# Altium footprint library CAPC1608X90L.PcbLib: 1 footprints
Each footprint in its own frame and in the unit in brackets; x right, y up, seen from the top. Pads: shape width x height; smd on the part's side, far side on the other; paste and mask are expansions set on the pad; w line width, h text height; cw(c..) or ccw(c..) is an arc to the next point about the centre after c.
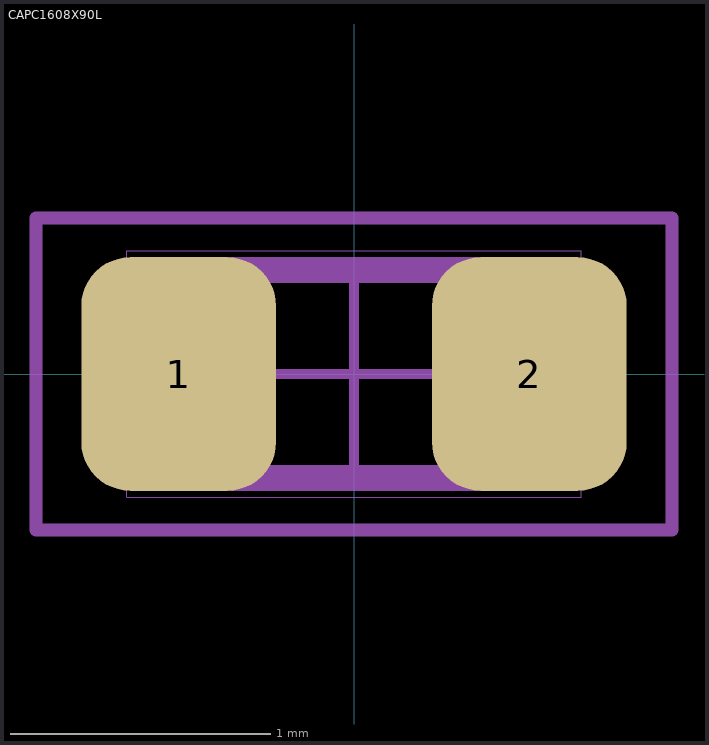
[diagram p0: the footprint, top view; thin cyan lines are the x and y axes]

## CAPC1608X90L [mm] "CAP 0603 (1608 metric) Least"
height 0.84
pads (2):
  rrect50% 0.75x0.9 smd: 1(-0.675,0) 2(0.675,0)
Mechanical 13:
  lines w0.001: -0.875,-0.475 -0.875,0.475 ; -0.875,-0.475 0.875,-0.475 ; -0.875,-0.475 -0.875,0.475 ; -0.875,-0.475 0.875,-0.475 ; -0.875,0.475 0.875,0.475 ; -0.875,0.475 0.875,0.475 ; 0.875,-0.475 0.875,0.475 ; 0.875,-0.475 0.875,0.475
  lines w0.1: -0.8,-0.4 0.8,-0.4 0.8,0.4 -0.8,0.4 -0.8,-0.4
Mechanical 15:
  lines w0.038: -0.381,0 0.381,0 ; 0,-0.381 0,0.381
  lines w0.05: -1.225,-0.6 1.225,-0.6 1.225,0.6 -1.225,0.6 -1.225,-0.6
3D body: height 0.9, standoff 0.05, extent -0.508,-0.475 0.508,0.475
3D body: height 0.9, standoff 0.05, extent -0.875,-0.475 -0.508,0.475
3D body: height 0.9, standoff 0.05, extent 0.508,-0.475 0.875,0.475